# EAGLE library part 74ACT16244 (library TI (v6))
16-bit non-inverting buffer with output enable. capable of +-50mA/pin, 400mA/package
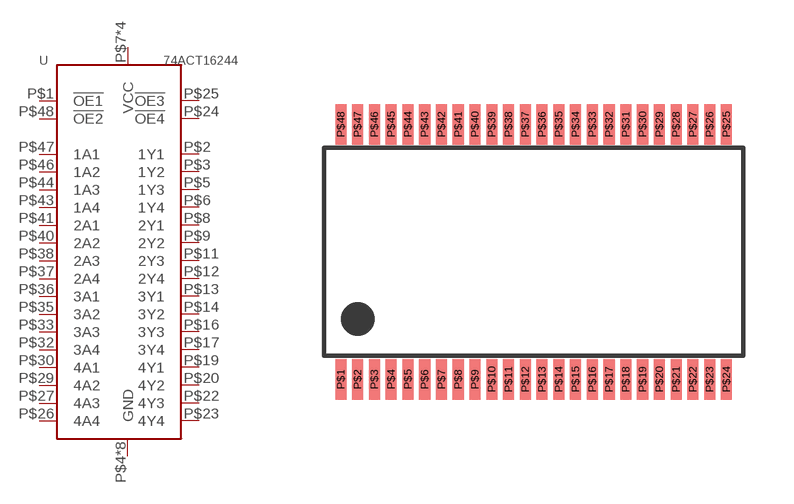
[diagram p7: symbol with the pads of TSSOP48; footprint TSSOP48]

Designator prefix -

## 74ACT16244  [TSSOP48]
P$1  !OE1
P$2  1Y1
P$3  1Y2
P$4  GND
P$5  1Y3
P$6  1Y4
P$7  VCC
P$8  2Y1
P$9  2Y2
P$10  GND
P$11  2Y3
P$12  2Y4
P$13  3Y1
P$14  3Y2
P$15  GND
P$16  3Y3
P$17  3Y4
P$18  VCC
P$19  4Y1
P$20  4Y2
P$21  GND
P$22  4Y3
P$23  4Y4
P$24  !OE4
P$25  !OE3
P$26  4A4
P$27  4A3
P$28  GND
P$29  4A2
P$30  4A1
P$31  VCC
P$32  3A4
P$33  3A3
P$34  GND
P$35  3A2
P$36  3A1
P$37  2A4
P$38  2A3
P$39  GND
P$40  2A2
P$41  2A1
P$42  VCC
P$43  1A4
P$44  1A3
P$45  GND
P$46  1A2
P$47  1A1
P$48  !OE2

## Footprint TSSOP48 (pad centres in mm)
smd 0.33 x 1.2: P$1 0,-3.8; P$2 0.5,-3.8; P$3 1,-3.8; P$4 1.5,-3.8; P$5 2,-3.8; P$6 2.5,-3.8; P$7 3,-3.8; P$8 3.5,-3.8; P$9 4,-3.8; P$10 4.5,-3.8; P$11 5,-3.8; P$12 5.5,-3.8; P$13 6,-3.8; P$14 6.5,-3.8; P$15 7,-3.8; P$16 7.5,-3.8; P$17 8,-3.8; P$18 8.5,-3.8; P$19 9,-3.8; P$20 9.5,-3.8; P$21 10,-3.8; P$22 10.5,-3.8; P$23 11,-3.8; P$24 11.5,-3.8; P$25 11.5,3.8; P$26 11,3.8; P$27 10.5,3.8; P$28 10,3.8; P$29 9.5,3.8; P$30 9,3.8; P$31 8.5,3.8; P$32 8,3.8; P$33 7.5,3.8; P$34 7,3.8; P$35 6.5,3.8; P$36 6,3.8; P$37 5.5,3.8; P$38 5,3.8; P$39 4.5,3.8; P$40 4,3.8; P$41 3.5,3.8; P$42 3,3.8; P$43 2.5,3.8; P$44 2,3.8; P$45 1.5,3.8; P$46 1,3.8; P$47 0.5,3.8; P$48 0,3.8